# Altium integrated library TI Data Converters Analog to Digital Converter.IntLib: 2197 symbols (part 148 of 168)
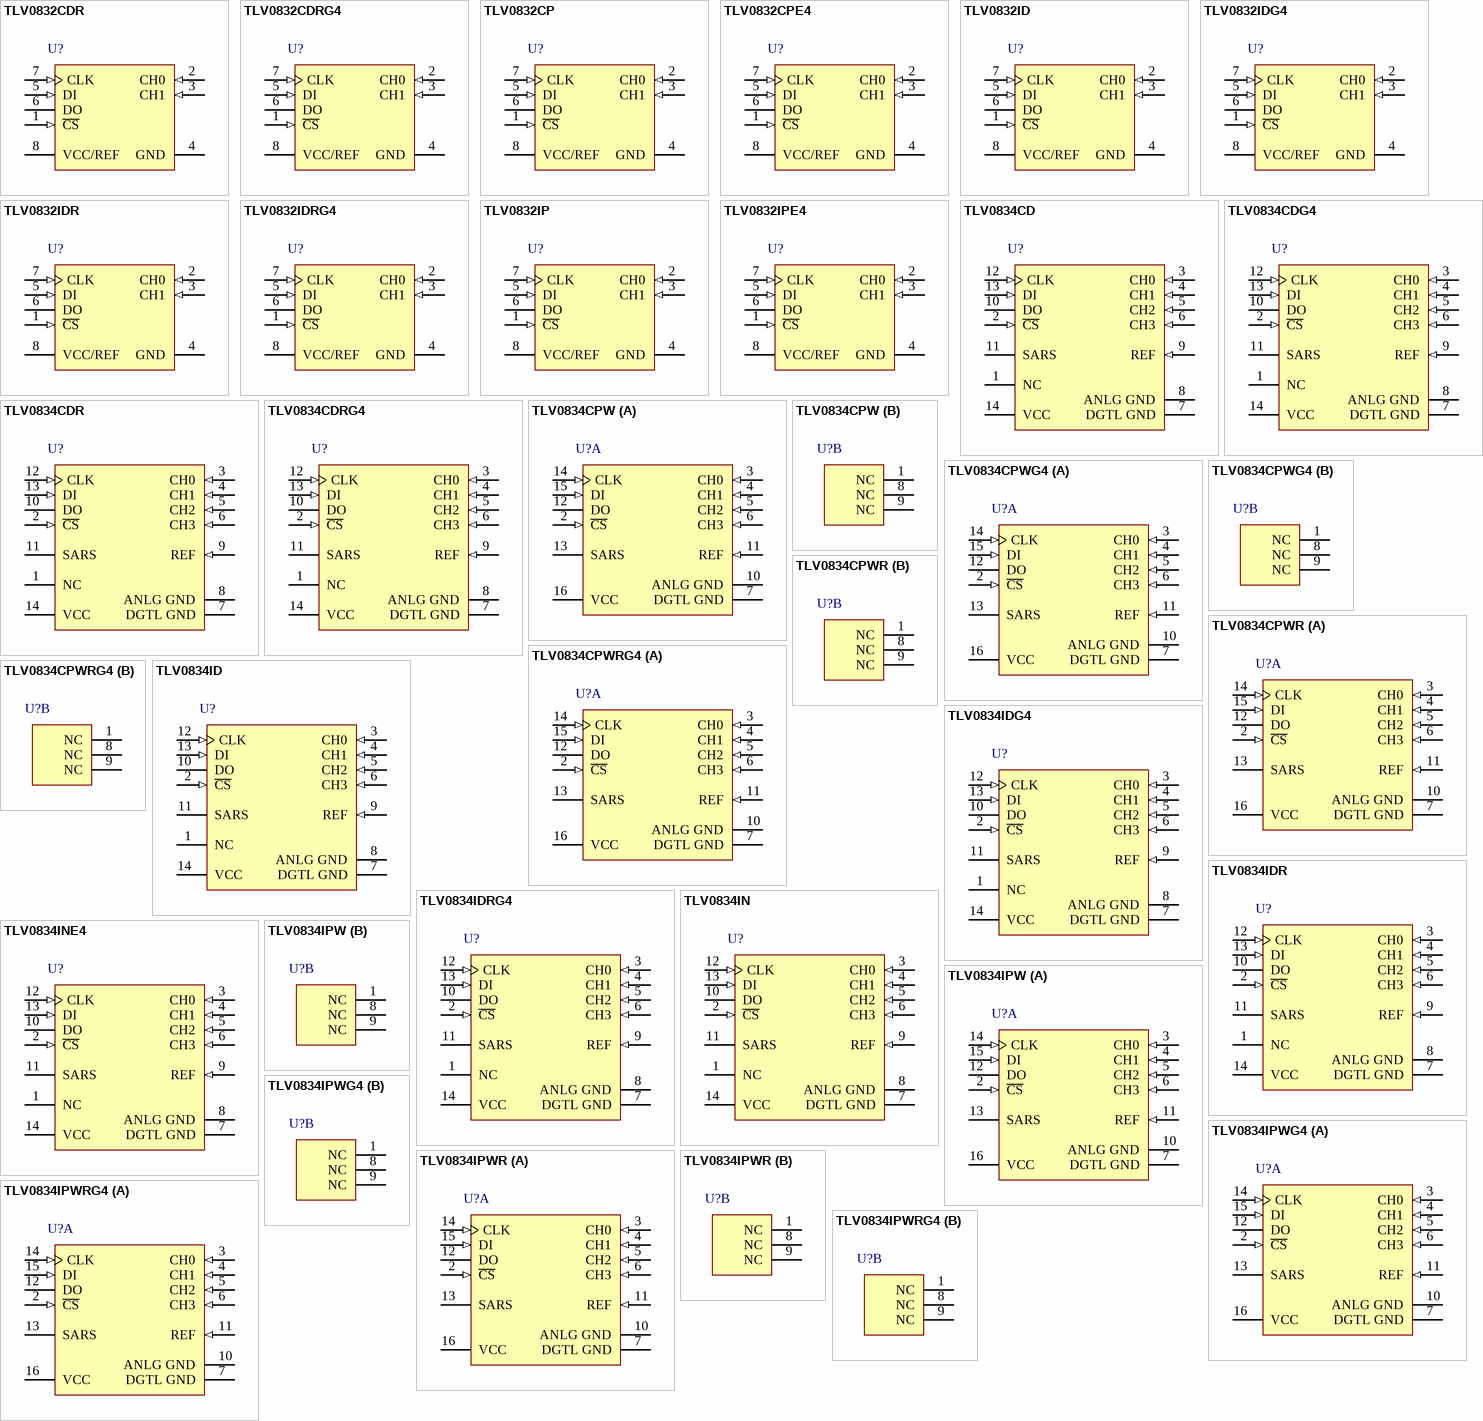
[diagram p273: symbols TLV0832CDR to TLV0834IPWRG4]

## TLV0834CPWG4
designator U?
8-Bit 41 kSPS ADC Serial Out, Ratiometric Operational or VCC REF, TTL / MOS Input and Output Compatible, 4 Channel, 0 to 70 degC, 16-pin SOP (PW16), Green (RoHS & no Sb/Br); Manufacturer: Texas Instruments; PartNumber: TLV0834CPWG4; # Input Channels: 4; Analog Voltage AV/DD(Max)(V): 3.6; Analog Voltage AV/DD(Min)(V): 2.7; Architecture: SAR; INL(Max)(+/-LSB): 0.5; Interface: Serial SPI; Resolution(Bits): 8; Sample Rate (max)(SPS): 41k; SubFamily: Precision ADC (<=10MSPS); DatasheetVersion: SLAS147B; PackageVersion: 4040064-4/G, 02/2011; PackageReference: PW16; PackageDescription: 16-Pin Plastic Small Outline, Body 5 x 4.4 mm, Pitch 0.65 mm; Supplier 1: Digi-Key; Supplier Part Number 1: ADS1292IPBSR-ND; Supplier 2: Newark; Supplier Part Number 2: 76T5199; Supplier 3: Mouser; Supplier Part Number 3: 595-ADS1292IPBSR; Digital Supply(Max)(V): 3.6; Digital Supply(Min)(V): 2.7; Eco-Plan: Green (RoHS & no Sb/Br); Mounting Technology: Surface Mount; Code_JEDEC: MO-153; ComponentLink1Description: Manufacturer URL; ComponentLink1URL: http://www.ti.com/; ComponentLink2Description: Datasheet; ComponentLink2URL: http://www.ti.com/general/docs/lit/getliterature.tsp?genericPartNumber=TLV0834&fileType=pdf; ComponentLink3Description: Package Specification; ComponentLink3URL: http://www.ti.com/lit/ml/mpds361/mpds361.pdf
footprint TI-PW16_N (SOP, 16-Leads, Body 5x4.4mm, Pitch 0.65mm, IPC Medium Density)
footprint TI-PW16_L (SOP, 16-Leads, Body 5x4.4mm, Pitch 0.65mm, IPC High Density)
footprint TI-PW16_M (SOP, 16-Leads, Body 5x4.4mm, Pitch 0.65mm, IPC Low Density)
part A pins: 2 ~{CS} (in), 3 CH0 (in), 4 CH1 (in), 5 CH2 (in), 6 CH3 (in), 7 DGTL GND (power), 10 ANLG GND (power), 11 REF (in), 12 DO (hiz), 13 SARS (hiz), 14 CLK (in), 15 DI (in), 16 VCC (power)
part B pins: 1 NC, 8 NC, 9 NC

## TLV0834CPWR
designator U?
8-Bit 41 kSPS ADC Serial Out, Ratiometric Operational or VCC REF, TTL / MOS Input and Output Compatible, 4 Channel, 0 to 70 degC, 16-pin SOP (PW16), Green (RoHS & no Sb/Br); Manufacturer: Texas Instruments; PartNumber: TLV0834CPWR; # Input Channels: 4; Analog Voltage AV/DD(Max)(V): 3.6; Analog Voltage AV/DD(Min)(V): 2.7; Architecture: SAR; INL(Max)(+/-LSB): 0.5; Interface: Serial SPI; Resolution(Bits): 8; Sample Rate (max)(SPS): 41k; SubFamily: Precision ADC (<=10MSPS); DatasheetVersion: SLAS147B; PackageVersion: 4040064-4/G, 02/2011; PackageReference: PW16; PackageDescription: 16-Pin Plastic Small Outline, Body 5 x 4.4 mm, Pitch 0.65 mm; Supplier 1: Digi-Key; Supplier Part Number 1: ADS1192IPBS-ND; Supplier 2: Mouser; Supplier Part Number 2: 595-ADS1192IPBS; Digital Supply(Max)(V): 3.6; Digital Supply(Min)(V): 2.7; Eco-Plan: Green (RoHS & no Sb/Br); Mounting Technology: Surface Mount; Code_JEDEC: MO-153; ComponentLink1Description: Manufacturer URL; ComponentLink1URL: http://www.ti.com/; ComponentLink2Description: Datasheet; ComponentLink2URL: http://www.ti.com/general/docs/lit/getliterature.tsp?genericPartNumber=TLV0834&fileType=pdf; ComponentLink3Description: Package Specification; ComponentLink3URL: http://www.ti.com/lit/ml/mpds361/mpds361.pdf
footprint TI-PW16_N (SOP, 16-Leads, Body 5x4.4mm, Pitch 0.65mm, IPC Medium Density)
footprint TI-PW16_L (SOP, 16-Leads, Body 5x4.4mm, Pitch 0.65mm, IPC High Density)
footprint TI-PW16_M (SOP, 16-Leads, Body 5x4.4mm, Pitch 0.65mm, IPC Low Density)
part A pins: 2 ~{CS} (in), 3 CH0 (in), 4 CH1 (in), 5 CH2 (in), 6 CH3 (in), 7 DGTL GND (power), 10 ANLG GND (power), 11 REF (in), 12 DO (hiz), 13 SARS (hiz), 14 CLK (in), 15 DI (in), 16 VCC (power)
part B pins: 1 NC, 8 NC, 9 NC

## TLV0834CPWRG4
designator U?
8-Bit 41 kSPS ADC Serial Out, Ratiometric Operational or VCC REF, TTL / MOS Input and Output Compatible, 4 Channel, 0 to 70 degC, 16-pin SOP (PW16), Green (RoHS & no Sb/Br); Manufacturer: Texas Instruments; PartNumber: TLV0834CPWRG4; # Input Channels: 4; Analog Voltage AV/DD(Max)(V): 3.6; Analog Voltage AV/DD(Min)(V): 2.7; Architecture: SAR; INL(Max)(+/-LSB): 0.5; Interface: Serial SPI; Resolution(Bits): 8; Sample Rate (max)(SPS): 41k; SubFamily: Precision ADC (<=10MSPS); DatasheetVersion: SLAS147B; PackageVersion: 4040064-4/G, 02/2011; PackageReference: PW16; PackageDescription: 16-Pin Plastic Small Outline, Body 5 x 4.4 mm, Pitch 0.65 mm; Supplier 1: Digi-Key; Supplier Part Number 1: ADS1192IPBSR-ND; Supplier 2: Mouser; Supplier Part Number 2: 595-ADS1192IPBSR; Digital Supply(Max)(V): 3.6; Digital Supply(Min)(V): 2.7; Eco-Plan: Green (RoHS & no Sb/Br); Mounting Technology: Surface Mount; Code_JEDEC: MO-153; ComponentLink1Description: Manufacturer URL; ComponentLink1URL: http://www.ti.com/; ComponentLink2Description: Datasheet; ComponentLink2URL: http://www.ti.com/general/docs/lit/getliterature.tsp?genericPartNumber=TLV0834&fileType=pdf; ComponentLink3Description: Package Specification; ComponentLink3URL: http://www.ti.com/lit/ml/mpds361/mpds361.pdf
footprint TI-PW16_N (SOP, 16-Leads, Body 5x4.4mm, Pitch 0.65mm, IPC Medium Density)
footprint TI-PW16_L (SOP, 16-Leads, Body 5x4.4mm, Pitch 0.65mm, IPC High Density)
footprint TI-PW16_M (SOP, 16-Leads, Body 5x4.4mm, Pitch 0.65mm, IPC Low Density)
part A pins: 2 ~{CS} (in), 3 CH0 (in), 4 CH1 (in), 5 CH2 (in), 6 CH3 (in), 7 DGTL GND (power), 10 ANLG GND (power), 11 REF (in), 12 DO (hiz), 13 SARS (hiz), 14 CLK (in), 15 DI (in), 16 VCC (power)
part B pins: 1 NC, 8 NC, 9 NC

## TLV0834ID
designator U?
8-Bit 41 kSPS ADC Serial Out, Ratiometric Operational or VCC REF, TTL / MOS Input and Output Compatible, 4 Channel, -40 to 85 degC, 14-pin SOIC (D14), Green (RoHS and no Sb/Br); Manufacturer: Texas Instruments; PartNumber: TLV0834ID; # Input Channels: 4; Analog Voltage AV/DD(Max)(V): 3.6; Analog Voltage AV/DD(Min)(V): 2.7; Architecture: SAR; Eco-Plan: Green (RoHS & no Sb/Br); INL(Max)(+/-LSB): 0.5; Interface: Serial SPI; Resolution(Bits): 8; Sample Rate (max)(SPS): 41k; SubFamily: Precision ADC (<=10MSPS); DatasheetVersion: SLAS147B; PackageVersion: 4040047-5/M, 06/2011; PackageReference: D14; PackageDescription: 14-Pin Plastic Small Outline, Body 8.65 x 3.9 mm, Pitch 1.27 mm; Supplier 1: Digi-Key; Supplier Part Number 1: ADS1291IPBS-ND; Supplier 2: Newark; Supplier Part Number 2: 76T5196; Supplier 3: Mouser; Supplier Part Number 3: 595-ADS1291IPBS; Digital Supply(Max)(V): 3.6; Digital Supply(Min)(V): 2.7; Mounting Technology: Surface Mount; Code_JEDEC: MS-012; ComponentLink1Description: Manufacturer URL; ComponentLink1URL: http://www.ti.com/; ComponentLink2Description: Datasheet; ComponentLink2URL: http://www.ti.com/general/docs/lit/getliterature.tsp?genericPartNumber=TLV0834&fileType=pdf; ComponentLink3Description: Package Specification; ComponentLink3URL: http://www.ti.com/lit/ml/mpds177g/mpds177g.pdf
footprint TI-D14_N (SOIC, 14-Leads, Body 8.65x3.9mm, Pitch 1.27mm, IPC Medium Density)
footprint TI-D14_L (SOIC, 14-Leads, Body 8.65x3.9mm, Pitch 1.27mm, IPC High Density)
footprint TI-D14_M (SOIC, 14-Leads, Body 8.65x3.9mm, Pitch 1.27mm, IPC Low Density)
pins: 1 NC, 2 ~{CS} (in), 3 CH0 (in), 4 CH1 (in), 5 CH2 (in), 6 CH3 (in), 7 DGTL GND (power), 8 ANLG GND (power), 9 REF (in), 10 DO (hiz), 11 SARS (hiz), 12 CLK (in), 13 DI (in), 14 VCC (power)

## TLV0834IDG4
designator U?
8-Bit 41 kSPS ADC Serial Out, Ratiometric Operational or VCC REF, TTL / MOS Input and Output Compatible, 4 Channel, -40 to 85 degC, 14-pin SOIC (D14), Green (RoHS and no Sb/Br); Manufacturer: Texas Instruments; PartNumber: TLV0834IDG4; # Input Channels: 4; Analog Voltage AV/DD(Max)(V): 3.6; Analog Voltage AV/DD(Min)(V): 2.7; Architecture: SAR; Eco-Plan: Green (RoHS & no Sb/Br); INL(Max)(+/-LSB): 0.5; Interface: Serial SPI; Resolution(Bits): 8; Sample Rate (max)(SPS): 41k; SubFamily: Precision ADC (<=10MSPS); DatasheetVersion: SLAS147B; PackageVersion: 4040047-5/M, 06/2011; PackageReference: D14; PackageDescription: 14-Pin Plastic Small Outline, Body 8.65 x 3.9 mm, Pitch 1.27 mm; Supplier 1: Digi-Key; Supplier Part Number 1: ADS1291IPBSR-ND; Supplier 2: Newark; Supplier Part Number 2: 76T5197; Supplier 3: Mouser; Supplier Part Number 3: 595-ADS1291IPBSR; Digital Supply(Max)(V): 3.6; Digital Supply(Min)(V): 2.7; Mounting Technology: Surface Mount; Code_JEDEC: MS-012; ComponentLink1Description: Manufacturer URL; ComponentLink1URL: http://www.ti.com/; ComponentLink2Description: Datasheet; ComponentLink2URL: http://www.ti.com/general/docs/lit/getliterature.tsp?genericPartNumber=TLV0834&fileType=pdf; ComponentLink3Description: Package Specification; ComponentLink3URL: http://www.ti.com/lit/ml/mpds177g/mpds177g.pdf
footprint TI-D14_N (SOIC, 14-Leads, Body 8.65x3.9mm, Pitch 1.27mm, IPC Medium Density)
footprint TI-D14_L (SOIC, 14-Leads, Body 8.65x3.9mm, Pitch 1.27mm, IPC High Density)
footprint TI-D14_M (SOIC, 14-Leads, Body 8.65x3.9mm, Pitch 1.27mm, IPC Low Density)
pins: 1 NC, 2 ~{CS} (in), 3 CH0 (in), 4 CH1 (in), 5 CH2 (in), 6 CH3 (in), 7 DGTL GND (power), 8 ANLG GND (power), 9 REF (in), 10 DO (hiz), 11 SARS (hiz), 12 CLK (in), 13 DI (in), 14 VCC (power)

## TLV0834IDR
designator U?
8-Bit 41 kSPS ADC Serial Out, Ratiometric Operational or VCC REF, TTL / MOS Input and Output Compatible, 4 Channel, -40 to 85 degC, 14-pin SOIC (D14), Green (RoHS and no Sb/Br); Manufacturer: Texas Instruments; PartNumber: TLV0834IDR; # Input Channels: 4; Analog Voltage AV/DD(Max)(V): 3.6; Analog Voltage AV/DD(Min)(V): 2.7; Architecture: SAR; Eco-Plan: Green (RoHS & no Sb/Br); INL(Max)(+/-LSB): 0.5; Interface: Serial SPI; Resolution(Bits): 8; Sample Rate (max)(SPS): 41k; SubFamily: Precision ADC (<=10MSPS); DatasheetVersion: SLAS147B; PackageVersion: 4040047-5/M, 06/2011; PackageReference: D14; PackageDescription: 14-Pin Plastic Small Outline, Body 8.65 x 3.9 mm, Pitch 1.27 mm; Supplier 1: Digi-Key; Supplier Part Number 1: ADS1191IPBS-ND; Supplier 2: Newark; Supplier Part Number 2: 76T5191; Supplier 3: Mouser; Supplier Part Number 3: 595-ADS1191IPBS; Digital Supply(Max)(V): 3.6; Digital Supply(Min)(V): 2.7; Mounting Technology: Surface Mount; Code_JEDEC: MS-012; ComponentLink1Description: Manufacturer URL; ComponentLink1URL: http://www.ti.com/; ComponentLink2Description: Datasheet; ComponentLink2URL: http://www.ti.com/general/docs/lit/getliterature.tsp?genericPartNumber=TLV0834&fileType=pdf; ComponentLink3Description: Package Specification; ComponentLink3URL: http://www.ti.com/lit/ml/mpds177g/mpds177g.pdf
footprint TI-D14_N (SOIC, 14-Leads, Body 8.65x3.9mm, Pitch 1.27mm, IPC Medium Density)
footprint TI-D14_L (SOIC, 14-Leads, Body 8.65x3.9mm, Pitch 1.27mm, IPC High Density)
footprint TI-D14_M (SOIC, 14-Leads, Body 8.65x3.9mm, Pitch 1.27mm, IPC Low Density)
pins: 1 NC, 2 ~{CS} (in), 3 CH0 (in), 4 CH1 (in), 5 CH2 (in), 6 CH3 (in), 7 DGTL GND (power), 8 ANLG GND (power), 9 REF (in), 10 DO (hiz), 11 SARS (hiz), 12 CLK (in), 13 DI (in), 14 VCC (power)

## TLV0834IDRG4
designator U?
8-Bit 41 kSPS ADC Serial Out, Ratiometric Operational or VCC REF, TTL / MOS Input and Output Compatible, 4 Channel, -40 to 85 degC, 14-pin SOIC (D14), Green (RoHS and no Sb/Br); Manufacturer: Texas Instruments; PartNumber: TLV0834IDRG4; # Input Channels: 4; Analog Voltage AV/DD(Max)(V): 3.6; Analog Voltage AV/DD(Min)(V): 2.7; Architecture: SAR; Eco-Plan: Green (RoHS & no Sb/Br); INL(Max)(+/-LSB): 0.5; Interface: Serial SPI; Resolution(Bits): 8; Sample Rate (max)(SPS): 41k; SubFamily: Precision ADC (<=10MSPS); DatasheetVersion: SLAS147B; PackageVersion: 4040047-5/M, 06/2011; PackageReference: D14; PackageDescription: 14-Pin Plastic Small Outline, Body 8.65 x 3.9 mm, Pitch 1.27 mm; Supplier 1: Digi-Key; Supplier Part Number 1: ADS1191IPBSR-ND; Supplier 2: Newark; Supplier Part Number 2: 76T5192; Supplier 3: Mouser; Supplier Part Number 3: 595-ADS1191IPBSR; Digital Supply(Max)(V): 3.6; Digital Supply(Min)(V): 2.7; Mounting Technology: Surface Mount; Code_JEDEC: MS-012; ComponentLink1Description: Manufacturer URL; ComponentLink1URL: http://www.ti.com/; ComponentLink2Description: Datasheet; ComponentLink2URL: http://www.ti.com/general/docs/lit/getliterature.tsp?genericPartNumber=TLV0834&fileType=pdf; ComponentLink3Description: Package Specification; ComponentLink3URL: http://www.ti.com/lit/ml/mpds177g/mpds177g.pdf
footprint TI-D14_N (SOIC, 14-Leads, Body 8.65x3.9mm, Pitch 1.27mm, IPC Medium Density)
footprint TI-D14_L (SOIC, 14-Leads, Body 8.65x3.9mm, Pitch 1.27mm, IPC High Density)
footprint TI-D14_M (SOIC, 14-Leads, Body 8.65x3.9mm, Pitch 1.27mm, IPC Low Density)
pins: 1 NC, 2 ~{CS} (in), 3 CH0 (in), 4 CH1 (in), 5 CH2 (in), 6 CH3 (in), 7 DGTL GND (power), 8 ANLG GND (power), 9 REF (in), 10 DO (hiz), 11 SARS (hiz), 12 CLK (in), 13 DI (in), 14 VCC (power)

## TLV0834IN
designator U?
8-Bit 41 kSPS ADC Serial Out, Ratiometric Operational or VCC REF, TTL / MOS Input and Output Compatible, 4 Channel, -40 to 85 degC, 14-pin DIP (N14), Pb-Free (RoHS); Manufacturer: Texas Instruments; PartNumber: TLV0834IN; # Input Channels: 4; Analog Voltage AV/DD(Max)(V): 3.6; Analog Voltage AV/DD(Min)(V): 2.7; Architecture: SAR; INL(Max)(+/-LSB): 0.5; Interface: Serial SPI; Resolution(Bits): 8; Sample Rate (max)(SPS): 41k; SubFamily: Precision ADC (<=10MSPS); DatasheetVersion: SLAS147B; PackageVersion: 4040049/E, 12/2002; PackageReference: N14; PackageDescription: 14-Pin Plastic In-Line, Body 19.305 x 6.35 mm, Pitch 2.54 mm; Supplier 1: Digi-Key; Supplier Part Number 1: 296-30066-ND; Supplier 2: Newark; Supplier Part Number 2: 76T5208; Supplier 3: Mouser; Supplier Part Number 3: 595-AFE5807ZCF; Digital Supply(Max)(V): 3.6; Digital Supply(Min)(V): 2.7; Eco-Plan: Pb-Free (RoHS); Mounting Technology: Through Hole; Code_JEDEC: MS-001; ComponentLink1Description: Manufacturer URL; ComponentLink1URL: http://www.ti.com/; ComponentLink2Description: Datasheet; ComponentLink2URL: http://www.ti.com/general/docs/lit/getliterature.tsp?genericPartNumber=TLV0834&fileType=pdf; ComponentLink3Description: Package Specification; ComponentLink3URL: http://www.ti.com/lit/ml/mpdi002c/mpdi002c.pdf
footprint TI-N14 (DIP, 14-Leads, Body 19.305x6.35mm, Pitch 2.54mm)
pins: 1 NC, 2 ~{CS} (in), 3 CH0 (in), 4 CH1 (in), 5 CH2 (in), 6 CH3 (in), 7 DGTL GND (power), 8 ANLG GND (power), 9 REF (in), 10 DO (hiz), 11 SARS (hiz), 12 CLK (in), 13 DI (in), 14 VCC (power)

## TLV0834INE4
designator U?
8-Bit 41 kSPS ADC Serial Out, Ratiometric Operational or VCC REF, TTL / MOS Input and Output Compatible, 4 Channel, -40 to 85 degC, 14-pin DIP (N14), Pb-Free (RoHS); Manufacturer: Texas Instruments; PartNumber: TLV0834INE4; # Input Channels: 4; Analog Voltage AV/DD(Max)(V): 3.6; Analog Voltage AV/DD(Min)(V): 2.7; Architecture: SAR; INL(Max)(+/-LSB): 0.5; Interface: Serial SPI; Resolution(Bits): 8; Sample Rate (max)(SPS): 41k; SubFamily: Precision ADC (<=10MSPS); DatasheetVersion: SLAS147B; PackageVersion: 4040049/E, 12/2002; PackageReference: N14; PackageDescription: 14-Pin Plastic In-Line, Body 19.305 x 6.35 mm, Pitch 2.54 mm; Supplier 1: Digi-Key; Supplier Part Number 1: 296-29986-5-ND; Supplier 2: Mouser; Supplier Part Number 2: 595-ADS5292IPFP; Digital Supply(Max)(V): 3.6; Digital Supply(Min)(V): 2.7; Eco-Plan: Pb-Free (RoHS); Mounting Technology: Through Hole; Code_JEDEC: MS-001; ComponentLink1Description: Manufacturer URL; ComponentLink1URL: http://www.ti.com/; ComponentLink2Description: Datasheet; ComponentLink2URL: http://www.ti.com/general/docs/lit/getliterature.tsp?genericPartNumber=TLV0834&fileType=pdf; ComponentLink3Description: Package Specification; ComponentLink3URL: http://www.ti.com/lit/ml/mpdi002c/mpdi002c.pdf
footprint TI-N14 (DIP, 14-Leads, Body 19.305x6.35mm, Pitch 2.54mm)
pins: 1 NC, 2 ~{CS} (in), 3 CH0 (in), 4 CH1 (in), 5 CH2 (in), 6 CH3 (in), 7 DGTL GND (power), 8 ANLG GND (power), 9 REF (in), 10 DO (hiz), 11 SARS (hiz), 12 CLK (in), 13 DI (in), 14 VCC (power)

## TLV0834IPW
designator U?
8-Bit 41 kSPS ADC Serial Out, Ratiometric Operational or VCC REF, TTL / MOS Input and Output Compatible, 4 Channel, -40 to 85 degC, 16-pin SOP (PW16), Green (RoHS & no Sb/Br); Manufacturer: Texas Instruments; PartNumber: TLV0834IPW; # Input Channels: 4; Analog Voltage AV/DD(Max)(V): 3.6; Analog Voltage AV/DD(Min)(V): 2.7; Architecture: SAR; INL(Max)(+/-LSB): 0.5; Interface: Serial SPI; Resolution(Bits): 8; Sample Rate (max)(SPS): 41k; SubFamily: Precision ADC (<=10MSPS); DatasheetVersion: SLAS147B; PackageVersion: 4040064-4/G, 02/2011; PackageReference: PW16; PackageDescription: 16-Pin Plastic Small Outline, Body 5 x 4.4 mm, Pitch 0.65 mm; Supplier 1: Digi-Key; Supplier Part Number 1: 296-30101-2-ND; Supplier 2: Digi-Key; Supplier Part Number 2: 296-30101-1-ND; Supplier 3: Digi-Key; Supplier Part Number 3: 296-30101-6-ND; Supplier 4: Mouser; Supplier Part Number 4: 595-ADS5292IPFPR; Digital Supply(Max)(V): 3.6; Digital Supply(Min)(V): 2.7; Eco-Plan: Green (RoHS & no Sb/Br); Mounting Technology: Surface Mount; Code_JEDEC: MO-153; ComponentLink1Description: Manufacturer URL; ComponentLink1URL: http://www.ti.com/; ComponentLink2Description: Datasheet; ComponentLink2URL: http://www.ti.com/general/docs/lit/getliterature.tsp?genericPartNumber=TLV0834&fileType=pdf; ComponentLink3Description: Package Specification; ComponentLink3URL: http://www.ti.com/lit/ml/mpds361/mpds361.pdf
footprint TI-PW16_N (SOP, 16-Leads, Body 5x4.4mm, Pitch 0.65mm, IPC Medium Density)
footprint TI-PW16_L (SOP, 16-Leads, Body 5x4.4mm, Pitch 0.65mm, IPC High Density)
footprint TI-PW16_M (SOP, 16-Leads, Body 5x4.4mm, Pitch 0.65mm, IPC Low Density)
part A pins: 2 ~{CS} (in), 3 CH0 (in), 4 CH1 (in), 5 CH2 (in), 6 CH3 (in), 7 DGTL GND (power), 10 ANLG GND (power), 11 REF (in), 12 DO (hiz), 13 SARS (hiz), 14 CLK (in), 15 DI (in), 16 VCC (power)
part B pins: 1 NC, 8 NC, 9 NC

## TLV0834IPWG4
designator U?
8-Bit 41 kSPS ADC Serial Out, Ratiometric Operational or VCC REF, TTL / MOS Input and Output Compatible, 4 Channel, -40 to 85 degC, 16-pin SOP (PW16), Green (RoHS & no Sb/Br); Manufacturer: Texas Instruments; PartNumber: TLV0834IPWG4; # Input Channels: 4; Analog Voltage AV/DD(Max)(V): 3.6; Analog Voltage AV/DD(Min)(V): 2.7; Architecture: SAR; INL(Max)(+/-LSB): 0.5; Interface: Serial SPI; Resolution(Bits): 8; Sample Rate (max)(SPS): 41k; SubFamily: Precision ADC (<=10MSPS); DatasheetVersion: SLAS147B; PackageVersion: 4040064-4/G, 02/2011; PackageReference: PW16; PackageDescription: 16-Pin Plastic Small Outline, Body 5 x 4.4 mm, Pitch 0.65 mm; Supplier 1: Digi-Key; Supplier Part Number 1: ADS5292IPFPT-ND; Supplier 2: Mouser; Supplier Part Number 2: 595-ADS5292IPFPT; Digital Supply(Max)(V): 3.6; Digital Supply(Min)(V): 2.7; Eco-Plan: Green (RoHS & no Sb/Br); Mounting Technology: Surface Mount; Code_JEDEC: MO-153; ComponentLink1Description: Manufacturer URL; ComponentLink1URL: http://www.ti.com/; ComponentLink2Description: Datasheet; ComponentLink2URL: http://www.ti.com/general/docs/lit/getliterature.tsp?genericPartNumber=TLV0834&fileType=pdf; ComponentLink3Description: Package Specification; ComponentLink3URL: http://www.ti.com/lit/ml/mpds361/mpds361.pdf
footprint TI-PW16_N (SOP, 16-Leads, Body 5x4.4mm, Pitch 0.65mm, IPC Medium Density)
footprint TI-PW16_L (SOP, 16-Leads, Body 5x4.4mm, Pitch 0.65mm, IPC High Density)
footprint TI-PW16_M (SOP, 16-Leads, Body 5x4.4mm, Pitch 0.65mm, IPC Low Density)
part A pins: 2 ~{CS} (in), 3 CH0 (in), 4 CH1 (in), 5 CH2 (in), 6 CH3 (in), 7 DGTL GND (power), 10 ANLG GND (power), 11 REF (in), 12 DO (hiz), 13 SARS (hiz), 14 CLK (in), 15 DI (in), 16 VCC (power)
part B pins: 1 NC, 8 NC, 9 NC

## TLV0834IPWR
designator U?
8-Bit 41 kSPS ADC Serial Out, Ratiometric Operational or VCC REF, TTL / MOS Input and Output Compatible, 4 Channel, -40 to 85 degC, 16-pin SOP (PW16), Green (RoHS & no Sb/Br); Manufacturer: Texas Instruments; PartNumber: TLV0834IPWR; # Input Channels: 4; Analog Voltage AV/DD(Max)(V): 3.6; Analog Voltage AV/DD(Min)(V): 2.7; Architecture: SAR; INL(Max)(+/-LSB): 0.5; Interface: Serial SPI; Resolution(Bits): 8; Sample Rate (max)(SPS): 41k; SubFamily: Precision ADC (<=10MSPS); DatasheetVersion: SLAS147B; PackageVersion: 4040064-4/G, 02/2011; PackageReference: PW16; PackageDescription: 16-Pin Plastic Small Outline, Body 5 x 4.4 mm, Pitch 0.65 mm; Supplier 1: Digi-Key; Supplier Part Number 1: 296-32609-ND; Supplier 2: Newark; Supplier Part Number 2: 74T1344; Supplier 3: Mouser; Supplier Part Number 3: 595-ADS5294IPFP; Digital Supply(Max)(V): 3.6; Digital Supply(Min)(V): 2.7; Eco-Plan: Green (RoHS & no Sb/Br); Mounting Technology: Surface Mount; Code_JEDEC: MO-153; ComponentLink1Description: Manufacturer URL; ComponentLink1URL: http://www.ti.com/; ComponentLink2Description: Datasheet; ComponentLink2URL: http://www.ti.com/general/docs/lit/getliterature.tsp?genericPartNumber=TLV0834&fileType=pdf; ComponentLink3Description: Package Specification; ComponentLink3URL: http://www.ti.com/lit/ml/mpds361/mpds361.pdf
footprint TI-PW16_N (SOP, 16-Leads, Body 5x4.4mm, Pitch 0.65mm, IPC Medium Density)
footprint TI-PW16_L (SOP, 16-Leads, Body 5x4.4mm, Pitch 0.65mm, IPC High Density)
footprint TI-PW16_M (SOP, 16-Leads, Body 5x4.4mm, Pitch 0.65mm, IPC Low Density)
part A pins: 2 ~{CS} (in), 3 CH0 (in), 4 CH1 (in), 5 CH2 (in), 6 CH3 (in), 7 DGTL GND (power), 10 ANLG GND (power), 11 REF (in), 12 DO (hiz), 13 SARS (hiz), 14 CLK (in), 15 DI (in), 16 VCC (power)
part B pins: 1 NC, 8 NC, 9 NC

## TLV0834IPWRG4
designator U?
8-Bit 41 kSPS ADC Serial Out, Ratiometric Operational or VCC REF, TTL / MOS Input and Output Compatible, 4 Channel, -40 to 85 degC, 16-pin SOP (PW16), Green (RoHS & no Sb/Br); Manufacturer: Texas Instruments; PartNumber: TLV0834IPWRG4; # Input Channels: 4; Analog Voltage AV/DD(Max)(V): 3.6; Analog Voltage AV/DD(Min)(V): 2.7; Architecture: SAR; INL(Max)(+/-LSB): 0.5; Interface: Serial SPI; Resolution(Bits): 8; Sample Rate (max)(SPS): 41k; SubFamily: Precision ADC (<=10MSPS); DatasheetVersion: SLAS147B; PackageVersion: 4040064-4/G, 02/2011; PackageReference: PW16; PackageDescription: 16-Pin Plastic Small Outline, Body 5 x 4.4 mm, Pitch 0.65 mm; Supplier 1: Digi-Key; Supplier Part Number 1: ADS5294IPFPR-ND; Supplier 2: Mouser; Supplier Part Number 2: 595-ADS5294IPFPR; Digital Supply(Max)(V): 3.6; Digital Supply(Min)(V): 2.7; Eco-Plan: Green (RoHS & no Sb/Br); Mounting Technology: Surface Mount; Code_JEDEC: MO-153; ComponentLink1Description: Manufacturer URL; ComponentLink1URL: http://www.ti.com/; ComponentLink2Description: Datasheet; ComponentLink2URL: http://www.ti.com/general/docs/lit/getliterature.tsp?genericPartNumber=TLV0834&fileType=pdf; ComponentLink3Description: Package Specification; ComponentLink3URL: http://www.ti.com/lit/ml/mpds361/mpds361.pdf
footprint TI-PW16_N (SOP, 16-Leads, Body 5x4.4mm, Pitch 0.65mm, IPC Medium Density)
footprint TI-PW16_L (SOP, 16-Leads, Body 5x4.4mm, Pitch 0.65mm, IPC High Density)
footprint TI-PW16_M (SOP, 16-Leads, Body 5x4.4mm, Pitch 0.65mm, IPC Low Density)
part A pins: 2 ~{CS} (in), 3 CH0 (in), 4 CH1 (in), 5 CH2 (in), 6 CH3 (in), 7 DGTL GND (power), 10 ANLG GND (power), 11 REF (in), 12 DO (hiz), 13 SARS (hiz), 14 CLK (in), 15 DI (in), 16 VCC (power)
part B pins: 1 NC, 8 NC, 9 NC

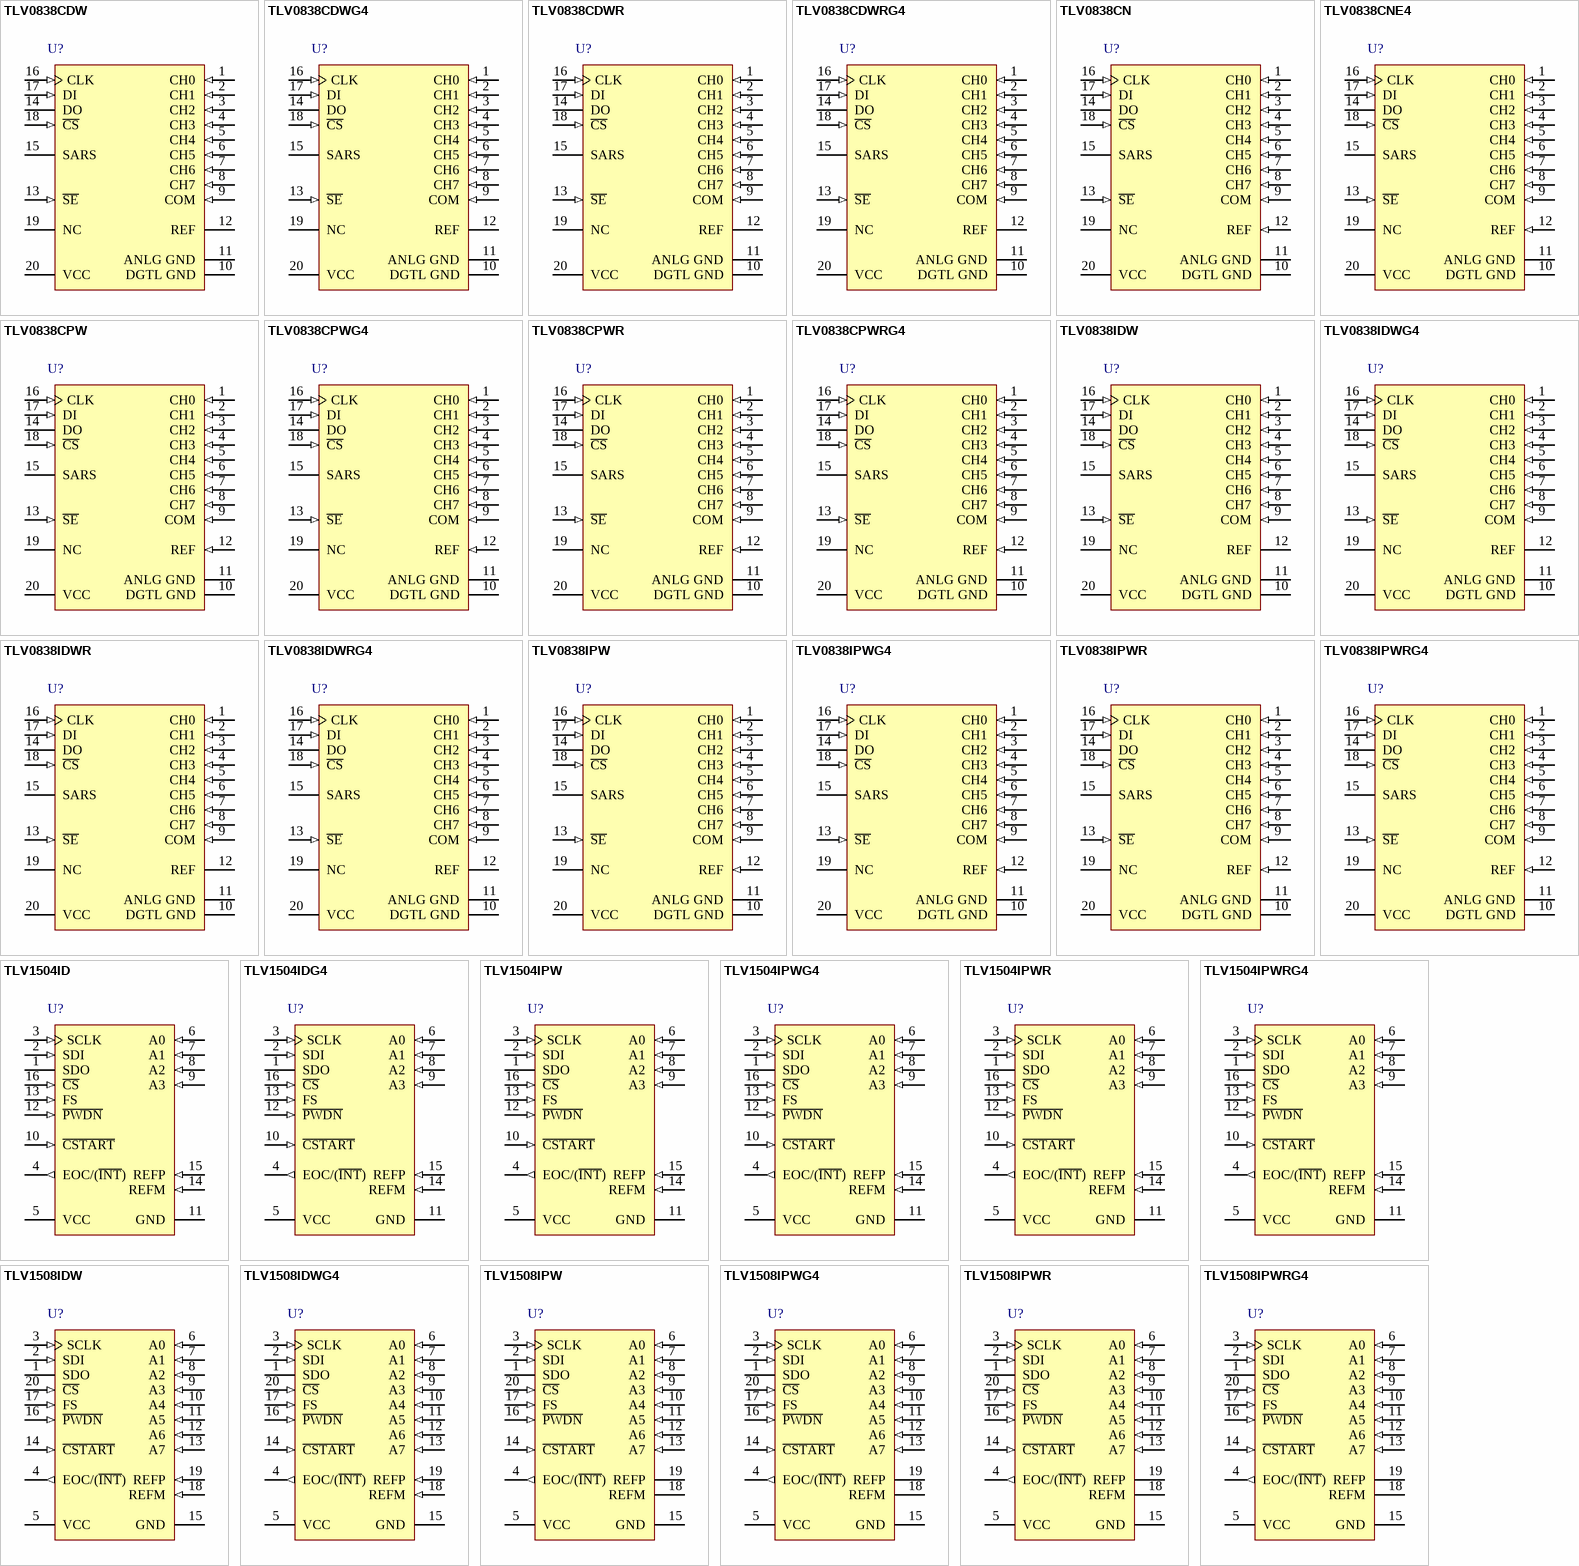
[diagram p117: symbols TLV0838CDW to TLV1508IPWRG4]

## TLV0838CDW
designator U?
8-Bit 37.9 kSPS ADC Serial Out, Ratiometrically Operate or VCC Reference, TTL / MOS Input & Output Compatible, 8 Channel, 0 to 70 degC, 20-pin SOIC (DW20), Green (RoHS & no Sb/Br); Manufacturer: Texas Instruments; PartNumber: TLV0838CDW; # Input Channels: 8; Analog Voltage AV/DD(Max)(V): 3.6; Analog Voltage AV/DD(Min)(V): 2.7; Architecture: SAR; INL(Max)(+/-LSB): 0.5; Interface: Serial SPI; Sample Rate (max)(SPS): 37.9k; SubFamily: Low Power, 8-Bit, Dual 1.5 GSPS or Single 3.0 GSPS A/D Converter; DatasheetVersion: SLAS147B; PackageVersion: 4040000-4/G, 01/2011; PackageReference: DW20; PackageDescription: 20-Pin Plastic Small Outline, Body 12.8 x 7.5 mm, Pitch 1.27 mm; Supplier 1: Digi-Key; Supplier Part Number 1: 296-29933-2-ND; Supplier 2: Digi-Key; Supplier Part Number 2: 296-29933-1-ND; Supplier 3: Digi-Key; Supplier Part Number 3: 296-29933-6-ND; Supplier 4: Mouser; Supplier Part Number 4: 595-ADS5294IPFPT; Digital Supply(Max)(V): 3.6; Digital Supply(Min)(V): 2.7; Eco-Plan: Green (RoHS & no Sb/Br); Resolution(Bits): 8; Mounting Technology: Surface Mount; Code_JEDEC: MO-013; ComponentLink1Description: Manufacturer URL; ComponentLink1URL: http://www.ti.com/; ComponentLink2Description: Datasheet; ComponentLink2URL: http://www.ti.com/general/docs/lit/getliterature.tsp?genericPartNumber=TLV0838&fileType=pdf; ComponentLink3Description: Package Specification; ComponentLink3URL: http://www.ti.com/lit/ml/mpds173a/mpds173a.pdf
footprint TI-DW20_N (SOIC, 20-Leads, Body 12.8x7.5mm, Pitch 1.27mm, IPC Medium Density)
footprint TI-DW20_L (SOIC, 20-Leads, Body 12.8x7.5mm, Pitch 1.27mm, IPC High Density)
footprint TI-DW20_M (SOIC, 20-Leads, Body 12.8x7.5mm, Pitch 1.27mm, IPC Low Density)
pins: 1 CH0 (in), 2 CH1 (in), 3 CH2 (in), 4 CH3 (in), 5 CH4 (in), 6 CH5 (in), 7 CH6 (in), 8 CH7 (in), 9 COM (in), 10 DGTL GND (power), 11 ANLG GND (power), 12 REF, 13 ~{SE} (in), 14 DO (hiz), 15 SARS (hiz), 16 CLK (in), 17 DI (in), 18 ~{CS} (in), 19 NC, 20 VCC (power)

## TLV0838CDWG4
designator U?
8-Bit 37.9 kSPS ADC Serial Out, Ratiometrically Operate or VCC Reference, TTL / MOS Input & Output Compatible, 8 Channel, 0 to 70 degC, 20-pin SOIC (DW20), Green (RoHS & no Sb/Br); Manufacturer: Texas Instruments; PartNumber: TLV0838CDWG4; # Input Channels: 8; Analog Voltage AV/DD(Max)(V): 3.6; Analog Voltage AV/DD(Min)(V): 2.7; Architecture: SAR; INL(Max)(+/-LSB): 0.5; Interface: Serial SPI; Sample Rate (max)(SPS): 37.9k; SubFamily: Low Power, 8-Bit, Dual 1.5 GSPS or Single 3.0 GSPS A/D Converter; DatasheetVersion: SLAS147B; PackageVersion: 4040000-4/G, 01/2011; PackageReference: DW20; PackageDescription: 20-Pin Plastic Small Outline, Body 12.8 x 7.5 mm, Pitch 1.27 mm; Supplier 1: Digi-Key; Supplier Part Number 1: 296-29866-5-ND; Supplier 2: Newark; Supplier Part Number 2: 74T1347; Supplier 3: Mouser; Supplier Part Number 3: 595-ADS8528SPM; Digital Supply(Max)(V): 3.6; Digital Supply(Min)(V): 2.7; Eco-Plan: Green (RoHS & no Sb/Br); Resolution(Bits): 8; Mounting Technology: Surface Mount; Code_JEDEC: MO-013; ComponentLink1Description: Manufacturer URL; ComponentLink1URL: http://www.ti.com/; ComponentLink2Description: Datasheet; ComponentLink2URL: http://www.ti.com/general/docs/lit/getliterature.tsp?genericPartNumber=TLV0838&fileType=pdf; ComponentLink3Description: Package Specification; ComponentLink3URL: http://www.ti.com/lit/ml/mpds173a/mpds173a.pdf
footprint TI-DW20_N (SOIC, 20-Leads, Body 12.8x7.5mm, Pitch 1.27mm, IPC Medium Density)
footprint TI-DW20_L (SOIC, 20-Leads, Body 12.8x7.5mm, Pitch 1.27mm, IPC High Density)
footprint TI-DW20_M (SOIC, 20-Leads, Body 12.8x7.5mm, Pitch 1.27mm, IPC Low Density)
pins: 1 CH0 (in), 2 CH1 (in), 3 CH2 (in), 4 CH3 (in), 5 CH4 (in), 6 CH5 (in), 7 CH6 (in), 8 CH7 (in), 9 COM (in), 10 DGTL GND (power), 11 ANLG GND (power), 12 REF, 13 ~{SE} (in), 14 DO (hiz), 15 SARS (hiz), 16 CLK (in), 17 DI (in), 18 ~{CS} (in), 19 NC, 20 VCC (power)

## TLV0838CDWR
designator U?
8-Bit 37.9 kSPS ADC Serial Out, Ratiometrically Operate or VCC Reference, TTL / MOS Input & Output Compatible, 8 Channel, 0 to 70 degC, 20-pin SOIC (DW20), Green (RoHS & no Sb/Br); Manufacturer: Texas Instruments; PartNumber: TLV0838CDWR; # Input Channels: 8; Analog Voltage AV/DD(Max)(V): 3.6; Analog Voltage AV/DD(Min)(V): 2.7; Architecture: SAR; INL(Max)(+/-LSB): 0.5; Interface: Serial SPI; Sample Rate (max)(SPS): 37.9k; SubFamily: Low Power, 8-Bit, Dual 1.5 GSPS or Single 3.0 GSPS A/D Converter; DatasheetVersion: SLAS147B; PackageVersion: 4040000-4/G, 01/2011; PackageReference: DW20; PackageDescription: 20-Pin Plastic Small Outline, Body 12.8 x 7.5 mm, Pitch 1.27 mm; Supplier 1: Digi-Key; Supplier Part Number 1: ADS8528SPMR-ND; Supplier 2: Mouser; Supplier Part Number 2: 595-ADS8528SPMR; Digital Supply(Max)(V): 3.6; Digital Supply(Min)(V): 2.7; Eco-Plan: Green (RoHS & no Sb/Br); Resolution(Bits): 8; Mounting Technology: Surface Mount; Code_JEDEC: MO-013; ComponentLink1Description: Manufacturer URL; ComponentLink1URL: http://www.ti.com/; ComponentLink2Description: Datasheet; ComponentLink2URL: http://www.ti.com/general/docs/lit/getliterature.tsp?genericPartNumber=TLV0838&fileType=pdf; ComponentLink3Description: Package Specification; ComponentLink3URL: http://www.ti.com/lit/ml/mpds173a/mpds173a.pdf
footprint TI-DW20_N (SOIC, 20-Leads, Body 12.8x7.5mm, Pitch 1.27mm, IPC Medium Density)
footprint TI-DW20_L (SOIC, 20-Leads, Body 12.8x7.5mm, Pitch 1.27mm, IPC High Density)
footprint TI-DW20_M (SOIC, 20-Leads, Body 12.8x7.5mm, Pitch 1.27mm, IPC Low Density)
pins: 1 CH0 (in), 2 CH1 (in), 3 CH2 (in), 4 CH3 (in), 5 CH4 (in), 6 CH5 (in), 7 CH6 (in), 8 CH7 (in), 9 COM (in), 10 DGTL GND (power), 11 ANLG GND (power), 12 REF, 13 ~{SE} (in), 14 DO (hiz), 15 SARS (hiz), 16 CLK (in), 17 DI (in), 18 ~{CS} (in), 19 NC, 20 VCC (power)

## TLV0838CDWRG4
designator U?
8-Bit 37.9 kSPS ADC Serial Out, Ratiometrically Operate or VCC Reference, TTL / MOS Input & Output Compatible, 8 Channel, 0 to 70 degC, 20-pin SOIC (DW20), Green (RoHS & no Sb/Br); Manufacturer: Texas Instruments; PartNumber: TLV0838CDWRG4; # Input Channels: 8; Analog Voltage AV/DD(Max)(V): 3.6; Analog Voltage AV/DD(Min)(V): 2.7; Architecture: SAR; INL(Max)(+/-LSB): 0.5; Interface: Serial SPI; Sample Rate (max)(SPS): 37.9k; SubFamily: Low Power, 8-Bit, Dual 1.5 GSPS or Single 3.0 GSPS A/D Converter; DatasheetVersion: SLAS147B; PackageVersion: 4040000-4/G, 01/2011; PackageReference: DW20; PackageDescription: 20-Pin Plastic Small Outline, Body 12.8 x 7.5 mm, Pitch 1.27 mm; Supplier 1: Digi-Key; Supplier Part Number 1: ADS8528SRGCR-ND; Supplier 2: Mouser; Supplier Part Number 2: 595-ADS8528SRGCR; Digital Supply(Max)(V): 3.6; Digital Supply(Min)(V): 2.7; Eco-Plan: Green (RoHS & no Sb/Br); Resolution(Bits): 8; Mounting Technology: Surface Mount; Code_JEDEC: MO-013; ComponentLink1Description: Manufacturer URL; ComponentLink1URL: http://www.ti.com/; ComponentLink2Description: Datasheet; ComponentLink2URL: http://www.ti.com/general/docs/lit/getliterature.tsp?genericPartNumber=TLV0838&fileType=pdf; ComponentLink3Description: Package Specification; ComponentLink3URL: http://www.ti.com/lit/ml/mpds173a/mpds173a.pdf
footprint TI-DW20_N (SOIC, 20-Leads, Body 12.8x7.5mm, Pitch 1.27mm, IPC Medium Density)
footprint TI-DW20_L (SOIC, 20-Leads, Body 12.8x7.5mm, Pitch 1.27mm, IPC High Density)
footprint TI-DW20_M (SOIC, 20-Leads, Body 12.8x7.5mm, Pitch 1.27mm, IPC Low Density)
pins: 1 CH0 (in), 2 CH1 (in), 3 CH2 (in), 4 CH3 (in), 5 CH4 (in), 6 CH5 (in), 7 CH6 (in), 8 CH7 (in), 9 COM (in), 10 DGTL GND (power), 11 ANLG GND (power), 12 REF, 13 ~{SE} (in), 14 DO (hiz), 15 SARS (hiz), 16 CLK (in), 17 DI (in), 18 ~{CS} (in), 19 NC, 20 VCC (power)

## TLV0838CN
designator U?
8-Bit 37.9 kSPS ADC Serial Out, Ratiometrically Operate or VCC Reference, TTL / MOS Input & Output Compatible, 8 Channel, 0 to 70 degC, 20-pin DIP (N20), Pb-Free (RoHS); Manufacturer: Texas Instruments; PartNumber: TLV0838CN; # Input Channels: 8; Analog Voltage AV/DD(Max)(V): 3.6; Analog Voltage AV/DD(Min)(V): 2.7; Architecture: SAR; INL(Max)(+/-LSB): 0.5; Interface: Serial SPI; Sample Rate (max)(SPS): 37.9k; SubFamily: Low Power, 8-Bit, Dual 1.5 GSPS or Single 3.0 GSPS A/D Converter; DatasheetVersion: SLAS147B; PackageVersion: 4040049/E, 12/2002; PackageReference: N20; PackageDescription: 20-Pin Plastic In-Line, Body 25.40 x 6.35 mm, Pitch 2.54 mm; Supplier 1: Digi-Key; Supplier Part Number 1: 296-29714-2-ND; Supplier 2: Digi-Key; Supplier Part Number 2: 296-29714-1-ND; Supplier 3: Digi-Key; Supplier Part Number 3: 296-29714-6-ND; Supplier 4: Farnell; Supplier Part Number 4: 2076027; Supplier 5: Newark; Supplier Part Number 5: 75T5155; Supplier 6: Mouser; Supplier Part Number 6: 595-ADS8528SRGCT; Digital Supply(Max)(V): 3.6; Digital Supply(Min)(V): 2.7; Eco-Plan: Pb-Free (RoHS); Resolution(Bits): 8; Mounting Technology: Through Hole; Code_JEDEC: MS-001; ComponentLink1Description: Manufacturer URL; ComponentLink1URL: http://www.ti.com/; ComponentLink2Description: Datasheet; ComponentLink2URL: http://www.ti.com/general/docs/lit/getliterature.tsp?genericPartNumber=TLV0838&fileType=pdf; ComponentLink3Description: Package Specification; ComponentLink3URL: http://www.ti.com/lit/ml/mpdi002c/mpdi002c.pdf
footprint TI-N20 (DIP, 20-Leads, Body 25.4x6.35 mm, Pitch 2.54 mm)
pins: 1 CH0 (in), 2 CH1 (in), 3 CH2 (in), 4 CH3 (in), 5 CH4 (in), 6 CH5 (in), 7 CH6 (in), 8 CH7 (in), 9 COM (in), 10 DGTL GND (power), 11 ANLG GND (power), 12 REF (in), 13 ~{SE} (in), 14 DO (hiz), 15 SARS (hiz), 16 CLK (in), 17 DI (in), 18 ~{CS} (in), 19 NC, 20 VCC (power)

## TLV0838CNE4
designator U?
8-Bit 37.9 kSPS ADC Serial Out, Ratiometrically Operate or VCC Reference, TTL / MOS Input & Output Compatible, 8 Channel, 0 to 70 degC, 20-pin DIP (N20), Pb-Free (RoHS); Manufacturer: Texas Instruments; PartNumber: TLV0838CNE4; # Input Channels: 8; Analog Voltage AV/DD(Max)(V): 3.6; Analog Voltage AV/DD(Min)(V): 2.7; Architecture: SAR; INL(Max)(+/-LSB): 0.5; Interface: Serial SPI; Sample Rate (max)(SPS): 37.9k; SubFamily: Low Power, 8-Bit, Dual 1.5 GSPS or Single 3.0 GSPS A/D Converter; DatasheetVersion: SLAS147B; PackageVersion: 4040049/E, 12/2002; PackageReference: N20; PackageDescription: 20-Pin Plastic In-Line, Body 25.40 x 6.35 mm, Pitch 2.54 mm; Supplier 1: Digi-Key; Supplier Part Number 1: 296-29867-5-ND; Supplier 2: Newark; Supplier Part Number 2: 74T1349; Supplier 3: Mouser; Supplier Part Number 3: 595-ADS8548SPM; Digital Supply(Max)(V): 3.6; Digital Supply(Min)(V): 2.7; Eco-Plan: Pb-Free (RoHS); Resolution(Bits): 8; Mounting Technology: Through Hole; Code_JEDEC: MS-001; ComponentLink1Description: Manufacturer URL; ComponentLink1URL: http://www.ti.com/; ComponentLink2Description: Datasheet; ComponentLink2URL: http://www.ti.com/general/docs/lit/getliterature.tsp?genericPartNumber=TLV0838&fileType=pdf; ComponentLink3Description: Package Specification; ComponentLink3URL: http://www.ti.com/lit/ml/mpdi002c/mpdi002c.pdf
footprint TI-N20 (DIP, 20-Leads, Body 25.4x6.35 mm, Pitch 2.54 mm)
pins: 1 CH0 (in), 2 CH1 (in), 3 CH2 (in), 4 CH3 (in), 5 CH4 (in), 6 CH5 (in), 7 CH6 (in), 8 CH7 (in), 9 COM (in), 10 DGTL GND (power), 11 ANLG GND (power), 12 REF (in), 13 ~{SE} (in), 14 DO (hiz), 15 SARS (hiz), 16 CLK (in), 17 DI (in), 18 ~{CS} (in), 19 NC, 20 VCC (power)

## TLV0838CPW
designator U?
8-Bit 37.9 kSPS ADC Serial Out, Ratiometrically Operate or VCC Reference, TTL / MOS Input & Output Compatible, 8 Channel, 0 to 70 degC, 20-pin SOP (PW20), Green (RoHS & no Sb/Br); Manufacturer: Texas Instruments; PartNumber: TLV0838CPW; # Input Channels: 8; Analog Voltage AV/DD(Max)(V): 3.6; Analog Voltage AV/DD(Min)(V): 2.7; Architecture: SAR; INL(Max)(+/-LSB): 0.5; Interface: Serial SPI; Sample Rate (max)(SPS): 37.9k; SubFamily: Low Power, 8-Bit, Dual 1.5 GSPS or Single 3.0 GSPS A/D Converter; DatasheetVersion: SLAS147B; PackageVersion: 4040064-5/G, 02/2011; PackageReference: PW20; PackageDescription: 20-Pin Plastic Small Outline, Body 6.5 x 4.4 mm, Pitch 0.65 mm; Supplier 1: Digi-Key; Supplier Part Number 1: ADS8548SPMR-ND; Supplier 2: Mouser; Supplier Part Number 2: 595-ADS8548SPMR; Digital Supply(Max)(V): 3.6; Digital Supply(Min)(V): 2.7; Eco-Plan: Green (RoHS & no Sb/Br); Resolution(Bits): 8; Mounting Technology: Surface Mount; Code_JEDEC: MO-153; ComponentLink1Description: Manufacturer URL; ComponentLink1URL: http://www.ti.com/; ComponentLink2Description: Datasheet; ComponentLink2URL: http://www.ti.com/general/docs/lit/getliterature.tsp?genericPartNumber=TLV0838&fileType=pdf; ComponentLink3Description: Package Specification; ComponentLink3URL: http://www.ti.com.cn/cn/lit/ml/mpds362/mpds362.pdf
footprint TI-PW20_N (SOP, 20-Leads, Body 6.5x4.4mm, Pitch 0.65mm, IPC Medium Density)
footprint TI-PW20_L (SOP, 20-Leads, Body 6.5x4.4mm, Pitch 0.65mm, IPC High Density)
footprint TI-PW20_M (SOP, 20-Leads, Body 6.5x4.4mm, Pitch 0.65mm, IPC Low Density)
pins: 1 CH0 (in), 2 CH1 (in), 3 CH2 (in), 4 CH3 (in), 5 CH4 (in), 6 CH5 (in), 7 CH6 (in), 8 CH7 (in), 9 COM (in), 10 DGTL GND (power), 11 ANLG GND (power), 12 REF (in), 13 ~{SE} (in), 14 DO (hiz), 15 SARS (hiz), 16 CLK (in), 17 DI (in), 18 ~{CS} (in), 19 NC, 20 VCC (power)

## TLV0838CPWG4
designator U?
8-Bit 37.9 kSPS ADC Serial Out, Ratiometrically Operate or VCC Reference, TTL / MOS Input & Output Compatible, 8 Channel, 0 to 70 degC, 20-pin SOP (PW20), Green (RoHS & no Sb/Br); Manufacturer: Texas Instruments; PartNumber: TLV0838CPWG4; # Input Channels: 8; Analog Voltage AV/DD(Max)(V): 3.6; Analog Voltage AV/DD(Min)(V): 2.7; Architecture: SAR; INL(Max)(+/-LSB): 0.5; Interface: Serial SPI; Sample Rate (max)(SPS): 37.9k; SubFamily: Low Power, 8-Bit, Dual 1.5 GSPS or Single 3.0 GSPS A/D Converter; DatasheetVersion: SLAS147B; PackageVersion: 4040064-5/G, 02/2011; PackageReference: PW20; PackageDescription: 20-Pin Plastic Small Outline, Body 6.5 x 4.4 mm, Pitch 0.65 mm; Supplier 1: Digi-Key; Supplier Part Number 1: ADS8548SRGCR-ND; Supplier 2: Mouser; Supplier Part Number 2: 595-ADS8548SRGCR; Digital Supply(Max)(V): 3.6; Digital Supply(Min)(V): 2.7; Eco-Plan: Green (RoHS & no Sb/Br); Resolution(Bits): 8; Mounting Technology: Surface Mount; Code_JEDEC: MO-153; ComponentLink1Description: Manufacturer URL; ComponentLink1URL: http://www.ti.com/; ComponentLink2Description: Datasheet; ComponentLink2URL: http://www.ti.com/general/docs/lit/getliterature.tsp?genericPartNumber=TLV0838&fileType=pdf; ComponentLink3Description: Package Specification; ComponentLink3URL: http://www.ti.com.cn/cn/lit/ml/mpds362/mpds362.pdf
footprint TI-PW20_N (SOP, 20-Leads, Body 6.5x4.4mm, Pitch 0.65mm, IPC Medium Density)
footprint TI-PW20_L (SOP, 20-Leads, Body 6.5x4.4mm, Pitch 0.65mm, IPC High Density)
footprint TI-PW20_M (SOP, 20-Leads, Body 6.5x4.4mm, Pitch 0.65mm, IPC Low Density)
pins: 1 CH0 (in), 2 CH1 (in), 3 CH2 (in), 4 CH3 (in), 5 CH4 (in), 6 CH5 (in), 7 CH6 (in), 8 CH7 (in), 9 COM (in), 10 DGTL GND (power), 11 ANLG GND (power), 12 REF (in), 13 ~{SE} (in), 14 DO (hiz), 15 SARS (hiz), 16 CLK (in), 17 DI (in), 18 ~{CS} (in), 19 NC, 20 VCC (power)

## TLV0838CPWR
designator U?
8-Bit 37.9 kSPS ADC Serial Out, Ratiometrically Operate or VCC Reference, TTL / MOS Input & Output Compatible, 8 Channel, 0 to 70 degC, 20-pin SOP (PW20), Green (RoHS & no Sb/Br); Manufacturer: Texas Instruments; PartNumber: TLV0838CPWR; # Input Channels: 8; Analog Voltage AV/DD(Max)(V): 3.6; Analog Voltage AV/DD(Min)(V): 2.7; Architecture: SAR; INL(Max)(+/-LSB): 0.5; Interface: Serial SPI; Sample Rate (max)(SPS): 37.9k; SubFamily: Low Power, 8-Bit, Dual 1.5 GSPS or Single 3.0 GSPS A/D Converter; DatasheetVersion: SLAS147B; PackageVersion: 4040064-5/G, 02/2011; PackageReference: PW20; PackageDescription: 20-Pin Plastic Small Outline, Body 6.5 x 4.4 mm, Pitch 0.65 mm; Supplier 1: Digi-Key; Supplier Part Number 1: 296-29715-2-ND; Supplier 2: Digi-Key; Supplier Part Number 2: 296-29715-1-ND; Supplier 3: Digi-Key; Supplier Part Number 3: 296-29715-6-ND; Supplier 4: Mouser; Supplier Part Number 4: 595-ADS8548SRGCT; Digital Supply(Max)(V): 3.6; Digital Supply(Min)(V): 2.7; Eco-Plan: Green (RoHS & no Sb/Br); Resolution(Bits): 8; Mounting Technology: Surface Mount; Code_JEDEC: MO-153; ComponentLink1Description: Manufacturer URL; ComponentLink1URL: http://www.ti.com/; ComponentLink2Description: Datasheet; ComponentLink2URL: http://www.ti.com/general/docs/lit/getliterature.tsp?genericPartNumber=TLV0838&fileType=pdf; ComponentLink3Description: Package Specification; ComponentLink3URL: http://www.ti.com.cn/cn/lit/ml/mpds362/mpds362.pdf
footprint TI-PW20_N (SOP, 20-Leads, Body 6.5x4.4mm, Pitch 0.65mm, IPC Medium Density)
footprint TI-PW20_L (SOP, 20-Leads, Body 6.5x4.4mm, Pitch 0.65mm, IPC High Density)
footprint TI-PW20_M (SOP, 20-Leads, Body 6.5x4.4mm, Pitch 0.65mm, IPC Low Density)
pins: 1 CH0 (in), 2 CH1 (in), 3 CH2 (in), 4 CH3 (in), 5 CH4 (in), 6 CH5 (in), 7 CH6 (in), 8 CH7 (in), 9 COM (in), 10 DGTL GND (power), 11 ANLG GND (power), 12 REF (in), 13 ~{SE} (in), 14 DO (hiz), 15 SARS (hiz), 16 CLK (in), 17 DI (in), 18 ~{CS} (in), 19 NC, 20 VCC (power)

## TLV0838CPWRG4
designator U?
8-Bit 37.9 kSPS ADC Serial Out, Ratiometrically Operate or VCC Reference, TTL / MOS Input & Output Compatible, 8 Channel, 0 to 70 degC, 20-pin SOP (PW20), Green (RoHS & no Sb/Br); Manufacturer: Texas Instruments; PartNumber: TLV0838CPWRG4; # Input Channels: 8; Analog Voltage AV/DD(Max)(V): 3.6; Analog Voltage AV/DD(Min)(V): 2.7; Architecture: SAR; INL(Max)(+/-LSB): 0.5; Interface: Serial SPI; Sample Rate (max)(SPS): 37.9k; SubFamily: Low Power, 8-Bit, Dual 1.5 GSPS or Single 3.0 GSPS A/D Converter; DatasheetVersion: SLAS147B; PackageVersion: 4040064-5/G, 02/2011; PackageReference: PW20; PackageDescription: 20-Pin Plastic Small Outline, Body 6.5 x 4.4 mm, Pitch 0.65 mm; Supplier 1: Digi-Key; Supplier Part Number 1: 296-29868-5-ND; Supplier 2: Mouser; Supplier Part Number 2: 595-ADS8568SPM; Digital Supply(Max)(V): 3.6; Digital Supply(Min)(V): 2.7; Eco-Plan: Green (RoHS & no Sb/Br); Resolution(Bits): 8; Mounting Technology: Surface Mount; Code_JEDEC: MO-153; ComponentLink1Description: Manufacturer URL; ComponentLink1URL: http://www.ti.com/; ComponentLink2Description: Datasheet; ComponentLink2URL: http://www.ti.com/general/docs/lit/getliterature.tsp?genericPartNumber=TLV0838&fileType=pdf; ComponentLink3Description: Package Specification; ComponentLink3URL: http://www.ti.com.cn/cn/lit/ml/mpds362/mpds362.pdf
footprint TI-PW20_N (SOP, 20-Leads, Body 6.5x4.4mm, Pitch 0.65mm, IPC Medium Density)
footprint TI-PW20_L (SOP, 20-Leads, Body 6.5x4.4mm, Pitch 0.65mm, IPC High Density)
footprint TI-PW20_M (SOP, 20-Leads, Body 6.5x4.4mm, Pitch 0.65mm, IPC Low Density)
pins: 1 CH0 (in), 2 CH1 (in), 3 CH2 (in), 4 CH3 (in), 5 CH4 (in), 6 CH5 (in), 7 CH6 (in), 8 CH7 (in), 9 COM (in), 10 DGTL GND (power), 11 ANLG GND (power), 12 REF (in), 13 ~{SE} (in), 14 DO (hiz), 15 SARS (hiz), 16 CLK (in), 17 DI (in), 18 ~{CS} (in), 19 NC, 20 VCC (power)

## TLV0838IDW
designator U?
8-Bit 37.9 kSPS ADC Serial Out, Ratiometrically Operate or VCC Reference, TTL / MOS Input & Output Compatible, 8 Channel, -40 to 85 degC, 20-pin SOIC (DW20), Green (RoHS & no Sb/Br); Manufacturer: Texas Instruments; PartNumber: TLV0838IDW; # Input Channels: 8; Analog Voltage AV/DD(Max)(V): 3.6; Analog Voltage AV/DD(Min)(V): 2.7; Architecture: SAR; INL(Max)(+/-LSB): 0.5; Interface: Serial SPI; Sample Rate (max)(SPS): 37.9k; SubFamily: Low Power, 8-Bit, Dual 1.5 GSPS or Single 3.0 GSPS A/D Converter; DatasheetVersion: SLAS147B; PackageVersion: 4040000-4/G, 01/2011; PackageReference: DW20; PackageDescription: 20-Pin Plastic Small Outline, Body 12.8 x 7.5 mm, Pitch 1.27 mm; Supplier 1: Digi-Key; Supplier Part Number 1: ADS8568SPMR-ND; Supplier 2: Mouser; Supplier Part Number 2: 595-ADS8568SPMR; Digital Supply(Max)(V): 3.6; Digital Supply(Min)(V): 2.7; Eco-Plan: Green (RoHS & no Sb/Br); Resolution(Bits): 8; Mounting Technology: Surface Mount; Code_JEDEC: MO-013; ComponentLink1Description: Manufacturer URL; ComponentLink1URL: http://www.ti.com/; ComponentLink2Description: Datasheet; ComponentLink2URL: http://www.ti.com/general/docs/lit/getliterature.tsp?genericPartNumber=TLV0838&fileType=pdf; ComponentLink3Description: Package Specification; ComponentLink3URL: http://www.ti.com/lit/ml/mpds173a/mpds173a.pdf
footprint TI-DW20_N (SOIC, 20-Leads, Body 12.8x7.5mm, Pitch 1.27mm, IPC Medium Density)
footprint TI-DW20_L (SOIC, 20-Leads, Body 12.8x7.5mm, Pitch 1.27mm, IPC High Density)
footprint TI-DW20_M (SOIC, 20-Leads, Body 12.8x7.5mm, Pitch 1.27mm, IPC Low Density)
pins: 1 CH0 (in), 2 CH1 (in), 3 CH2 (in), 4 CH3 (in), 5 CH4 (in), 6 CH5 (in), 7 CH6 (in), 8 CH7 (in), 9 COM (in), 10 DGTL GND (power), 11 ANLG GND (power), 12 REF, 13 ~{SE} (in), 14 DO (hiz), 15 SARS (hiz), 16 CLK (in), 17 DI (in), 18 ~{CS} (in), 19 NC, 20 VCC (power)

## TLV0838IDWG4
designator U?
8-Bit 37.9 kSPS ADC Serial Out, Ratiometrically Operate or VCC Reference, TTL / MOS Input & Output Compatible, 8 Channel, -40 to 85 degC, 20-pin SOIC (DW20), Green (RoHS & no Sb/Br); Manufacturer: Texas Instruments; PartNumber: TLV0838IDWG4; # Input Channels: 8; Analog Voltage AV/DD(Max)(V): 3.6; Analog Voltage AV/DD(Min)(V): 2.7; Architecture: SAR; INL(Max)(+/-LSB): 0.5; Interface: Serial SPI; Sample Rate (max)(SPS): 37.9k; SubFamily: Low Power, 8-Bit, Dual 1.5 GSPS or Single 3.0 GSPS A/D Converter; DatasheetVersion: SLAS147B; PackageVersion: 4040000-4/G, 01/2011; PackageReference: DW20; PackageDescription: 20-Pin Plastic Small Outline, Body 12.8 x 7.5 mm, Pitch 1.27 mm; Supplier 1: Digi-Key; Supplier Part Number 1: ADS8568SRGCR-ND; Supplier 2: Mouser; Supplier Part Number 2: 595-ADS8568SRGCR; Digital Supply(Max)(V): 3.6; Digital Supply(Min)(V): 2.7; Eco-Plan: Green (RoHS & no Sb/Br); Resolution(Bits): 8; Mounting Technology: Surface Mount; Code_JEDEC: MO-013; ComponentLink1Description: Manufacturer URL; ComponentLink1URL: http://www.ti.com/; ComponentLink2Description: Datasheet; ComponentLink2URL: http://www.ti.com/general/docs/lit/getliterature.tsp?genericPartNumber=TLV0838&fileType=pdf; ComponentLink3Description: Package Specification; ComponentLink3URL: http://www.ti.com/lit/ml/mpds173a/mpds173a.pdf
footprint TI-DW20_N (SOIC, 20-Leads, Body 12.8x7.5mm, Pitch 1.27mm, IPC Medium Density)
footprint TI-DW20_L (SOIC, 20-Leads, Body 12.8x7.5mm, Pitch 1.27mm, IPC High Density)
footprint TI-DW20_M (SOIC, 20-Leads, Body 12.8x7.5mm, Pitch 1.27mm, IPC Low Density)
pins: 1 CH0 (in), 2 CH1 (in), 3 CH2 (in), 4 CH3 (in), 5 CH4 (in), 6 CH5 (in), 7 CH6 (in), 8 CH7 (in), 9 COM (in), 10 DGTL GND (power), 11 ANLG GND (power), 12 REF, 13 ~{SE} (in), 14 DO (hiz), 15 SARS (hiz), 16 CLK (in), 17 DI (in), 18 ~{CS} (in), 19 NC, 20 VCC (power)

## TLV0838IDWR
designator U?
8-Bit 37.9 kSPS ADC Serial Out, Ratiometrically Operate or VCC Reference, TTL / MOS Input & Output Compatible, 8 Channel, -40 to 85 degC, 20-pin SOIC (DW20), Green (RoHS & no Sb/Br); Manufacturer: Texas Instruments; PartNumber: TLV0838IDWR; # Input Channels: 8; Analog Voltage AV/DD(Max)(V): 3.6; Analog Voltage AV/DD(Min)(V): 2.7; Architecture: SAR; INL(Max)(+/-LSB): 0.5; Interface: Serial SPI; Sample Rate (max)(SPS): 37.9k; SubFamily: Low Power, 8-Bit, Dual 1.5 GSPS or Single 3.0 GSPS A/D Converter; DatasheetVersion: SLAS147B; PackageVersion: 4040000-4/G, 01/2011; PackageReference: DW20; PackageDescription: 20-Pin Plastic Small Outline, Body 12.8 x 7.5 mm, Pitch 1.27 mm; Supplier 1: Digi-Key; Supplier Part Number 1: 296-29716-2-ND; Supplier 2: Digi-Key; Supplier Part Number 2: 296-29716-1-ND; Supplier 3: Digi-Key; Supplier Part Number 3: 296-29716-6-ND; Supplier 4: Farnell; Supplier Part Number 4: 2076028; Supplier 5: Newark; Supplier Part Number 5: 75T5156; Supplier 6: Newark; Supplier Part Number 6: 67T8386; Supplier 7: Mouser; Supplier Part Number 7: 595-ADS8568SRGCT; Digital Supply(Max)(V): 3.6; Digital Supply(Min)(V): 2.7; Eco-Plan: Green (RoHS & no Sb/Br); Resolution(Bits): 8; Mounting Technology: Surface Mount; Code_JEDEC: MO-013; ComponentLink1Description: Manufacturer URL; ComponentLink1URL: http://www.ti.com/; ComponentLink2Description: Datasheet; ComponentLink2URL: http://www.ti.com/general/docs/lit/getliterature.tsp?genericPartNumber=TLV0838&fileType=pdf; ComponentLink3Description: Package Specification; ComponentLink3URL: http://www.ti.com/lit/ml/mpds173a/mpds173a.pdf
footprint TI-DW20_N (SOIC, 20-Leads, Body 12.8x7.5mm, Pitch 1.27mm, IPC Medium Density)
footprint TI-DW20_L (SOIC, 20-Leads, Body 12.8x7.5mm, Pitch 1.27mm, IPC High Density)
footprint TI-DW20_M (SOIC, 20-Leads, Body 12.8x7.5mm, Pitch 1.27mm, IPC Low Density)
pins: 1 CH0 (in), 2 CH1 (in), 3 CH2 (in), 4 CH3 (in), 5 CH4 (in), 6 CH5 (in), 7 CH6 (in), 8 CH7 (in), 9 COM (in), 10 DGTL GND (power), 11 ANLG GND (power), 12 REF, 13 ~{SE} (in), 14 DO (hiz), 15 SARS (hiz), 16 CLK (in), 17 DI (in), 18 ~{CS} (in), 19 NC, 20 VCC (power)

## TLV0838IDWRG4
designator U?
8-Bit 37.9 kSPS ADC Serial Out, Ratiometrically Operate or VCC Reference, TTL / MOS Input & Output Compatible, 8 Channel, -40 to 85 degC, 20-pin SOIC (DW20), Green (RoHS & no Sb/Br); Manufacturer: Texas Instruments; PartNumber: TLV0838IDWRG4; # Input Channels: 8; Analog Voltage AV/DD(Max)(V): 3.6; Analog Voltage AV/DD(Min)(V): 2.7; Architecture: SAR; INL(Max)(+/-LSB): 0.5; Interface: Serial SPI; Sample Rate (max)(SPS): 37.9k; SubFamily: Low Power, 8-Bit, Dual 1.5 GSPS or Single 3.0 GSPS A/D Converter; DatasheetVersion: SLAS147B; PackageVersion: 4040000-4/G, 01/2011; PackageReference: DW20; PackageDescription: 20-Pin Plastic Small Outline, Body 12.8 x 7.5 mm, Pitch 1.27 mm; Supplier 1: Digi-Key; Supplier Part Number 1: 296-32013-2-ND; Supplier 2: Digi-Key; Supplier Part Number 2: 296-32013-1-ND; Supplier 3: Digi-Key; Supplier Part Number 3: 296-32013-6-ND; Supplier 4: Mouser; Supplier Part Number 4: 595-ADS4249IRGC25; Digital Supply(Max)(V): 3.6; Digital Supply(Min)(V): 2.7; Eco-Plan: Green (RoHS & no Sb/Br); Resolution(Bits): 8; Mounting Technology: Surface Mount; Code_JEDEC: MO-013; ComponentLink1Description: Manufacturer URL; ComponentLink1URL: http://www.ti.com/; ComponentLink2Description: Datasheet; ComponentLink2URL: http://www.ti.com/general/docs/lit/getliterature.tsp?genericPartNumber=TLV0838&fileType=pdf; ComponentLink3Description: Package Specification; ComponentLink3URL: http://www.ti.com/lit/ml/mpds173a/mpds173a.pdf
footprint TI-DW20_N (SOIC, 20-Leads, Body 12.8x7.5mm, Pitch 1.27mm, IPC Medium Density)
footprint TI-DW20_L (SOIC, 20-Leads, Body 12.8x7.5mm, Pitch 1.27mm, IPC High Density)
footprint TI-DW20_M (SOIC, 20-Leads, Body 12.8x7.5mm, Pitch 1.27mm, IPC Low Density)
pins: 1 CH0 (in), 2 CH1 (in), 3 CH2 (in), 4 CH3 (in), 5 CH4 (in), 6 CH5 (in), 7 CH6 (in), 8 CH7 (in), 9 COM (in), 10 DGTL GND (power), 11 ANLG GND (power), 12 REF, 13 ~{SE} (in), 14 DO (hiz), 15 SARS (hiz), 16 CLK (in), 17 DI (in), 18 ~{CS} (in), 19 NC, 20 VCC (power)